# EAGLE library part ATGM336H-5N (library MyLib)
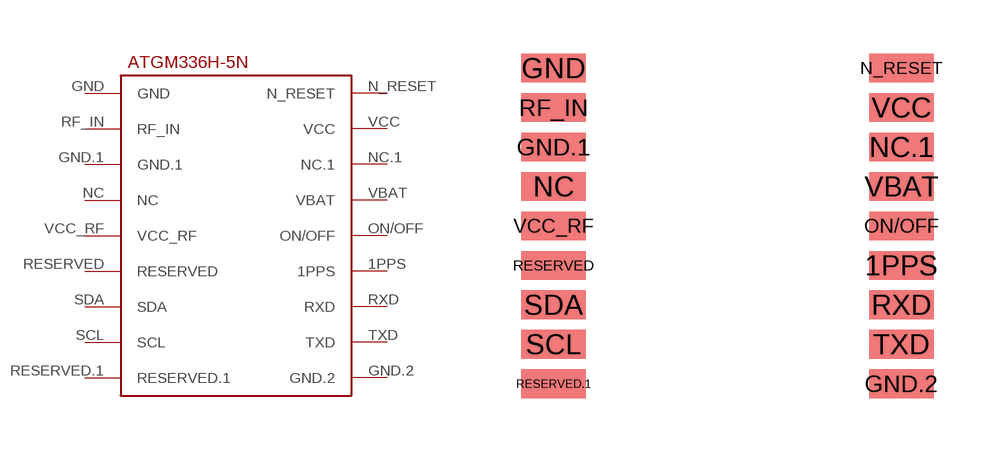
[diagram p2: symbol with the pads of ATGM336H-5N; footprint ATGM336H-5N]

Designator prefix -

## ATGM336H-5N  [ATGM336H-5N]
1PPS  1PPS
GND  GND
GND.1  GND.1
GND.2  GND.2
N_RESET  N_RESET
NC  NC
NC.1  NC.1
ON/OFF  ON/OFF
RESERVED  RESERVED
RESERVED.1  RESERVED.1
RF_IN  RF_IN
RXD  RXD
SCL  SCL
SDA  SDA
TXD  TXD
VBAT  VBAT
VCC  VCC
VCC_RF  VCC_RF

## Footprint ATGM336H-5N (pad centres in mm)
smd 1.8 x 0.8: 1PPS 8.6,-2.2; GND -1.1,3.3; GND.1 -1.1,1.1; GND.2 8.6,-5.5; N_RESET 8.6,3.3; NC -1.1,0; NC.1 8.6,1.1; ON/OFF 8.6,-1.1; RESERVED -1.1,-2.2; RESERVED.1 -1.1,-5.5; RF_IN -1.1,2.2; RXD 8.6,-3.3; SCL -1.1,-4.4; SDA -1.1,-3.3; TXD 8.6,-4.4; VBAT 8.6,0; VCC 8.6,2.2; VCC_RF -1.1,-1.1